# Altium footprint library cs-movement-custom-lib.PCBLIB: 21 footprints (part 1 of 2)
Each footprint in its own frame and in the unit in brackets; x right, y up, seen from the top. Pads: shape width x height; smd on the part's side, far side on the other; paste and mask are expansions set on the pad; w line width, h text height; cw(c..) or ccw(c..) is an arc to the next point about the centre after c.
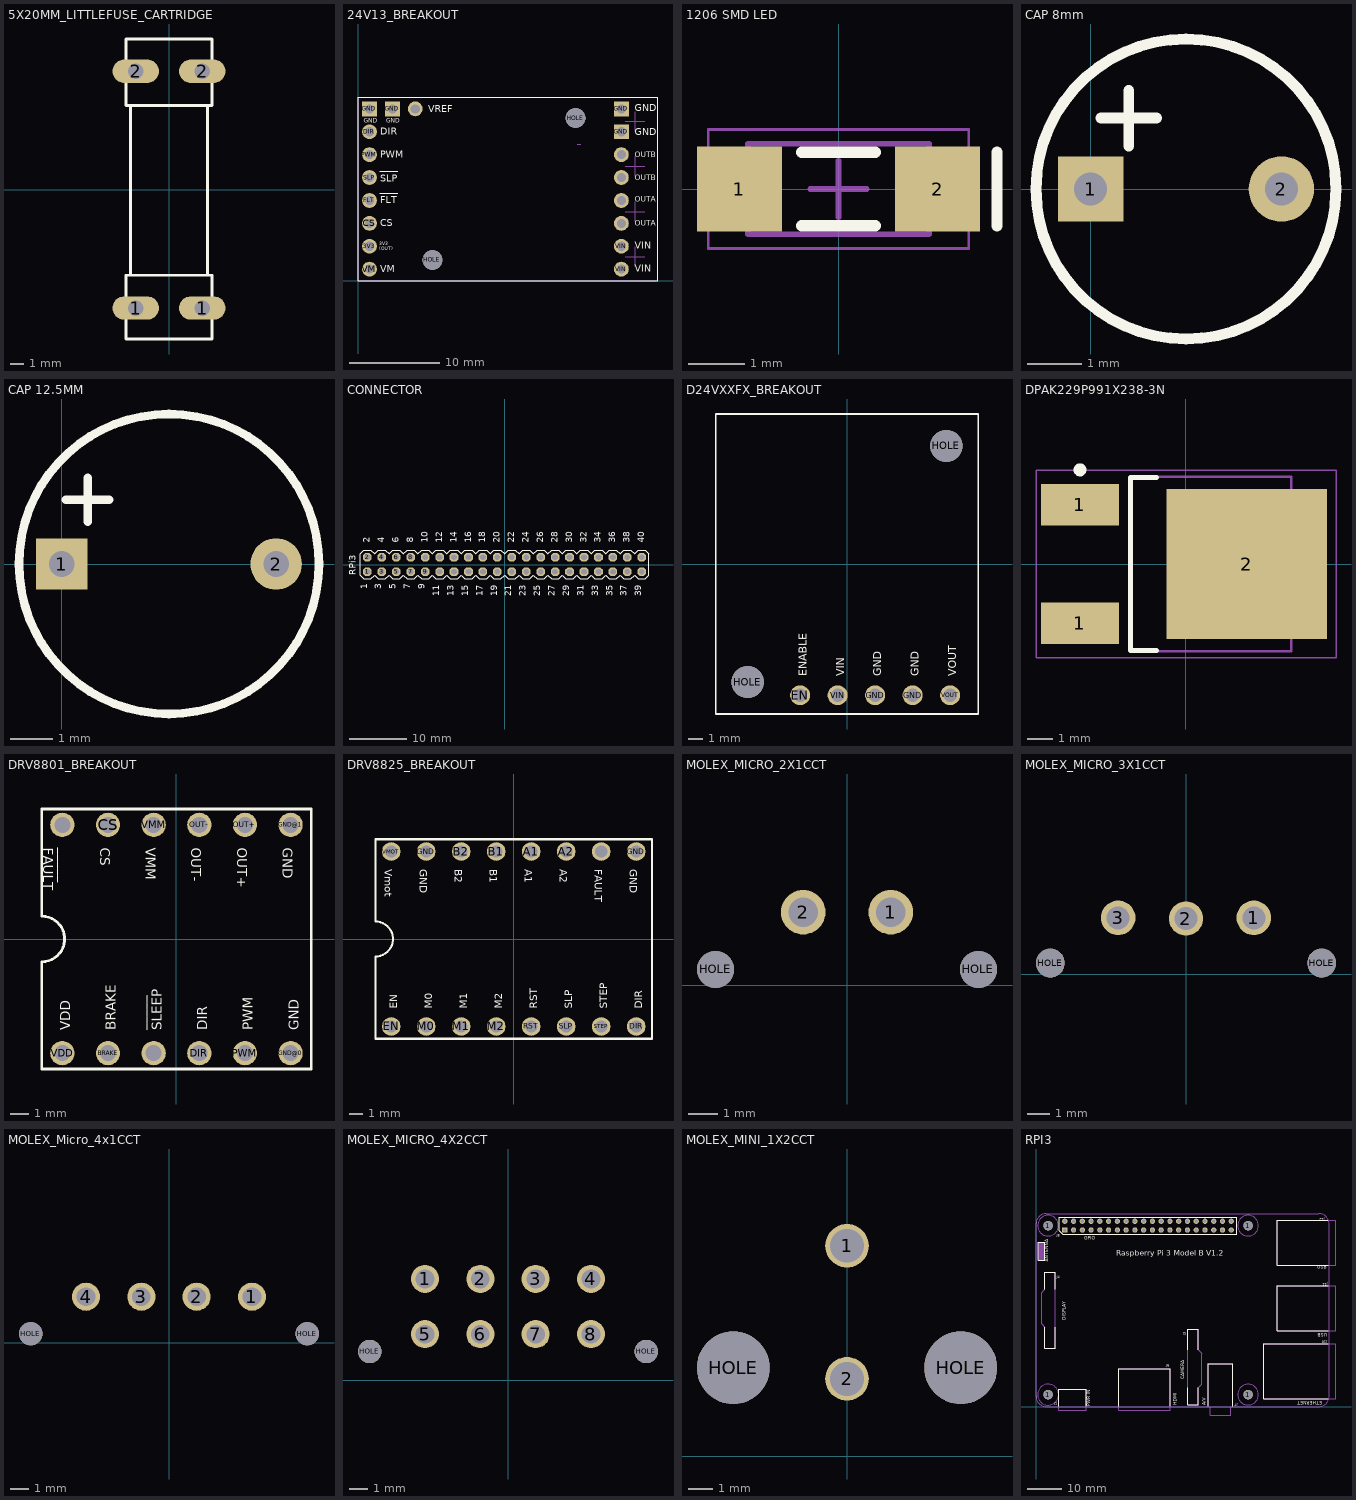
[diagram p0: the footprints below, top view; thin cyan lines are the x and y axes]

## 5X20MM_LITTLEFUSE_CARTRIDGE [mil]
pads (4):
  oval 138.18x69.09 hole 46.06: 1(-98.43,-350.39) 1(98.43,-350.39) 2(-98.43,350.39) 2(98.43,350.39)
Top Overlay:
  lines w8: -114.17,-251.97 -114.17,248.03 ; 114.17,-251.97 114.17,248.03 ; -127,-442.01 -127,-253.19 127,-253.19 127,-442.01 -127,-442.01 ; -127,249.25 -127,445.94 127,445.94 127,249.25 -127,249.25

## 24V13_BREAKOUT [mil]
pads (20):
  round 65 hole 40: 3V3(50,150) CS(50,250) DIR(50,650) FLT(50,350) OUTA(1150,250) OUTA(1150,350) OUTB(1150,450) OUTB(1150,550) PWM(50,550) SLP(50,450) VIN(1150,50) VIN(1150,150) VM(50,50) VREF(250,750)
  rect 65x65 hole 40: GND(50,750) GND(150,750) GND(1150,650) GND(1150,750)
  round 85.98 hole 85.98 unplated: HOLE(325,90) HOLE(950,710)
Top Overlay:
  lines w4.92: 94.37,381.97 174.37,381.97 ; 94.37,476.97 174.37,476.97 ; 0,0 0,800 1310,800 1310,0 0,0
  text "VIN" at 1207.84,38.94 h30
  text "VIN" at 1207.84,138.94 h30
  text "OUTA" at 1207.84,238.94 h23.62
  text "OUTA" at 1207.84,343.94 h23.62
  text "OUTB" at 1207.84,438.94 h23.62
  text "OUTB" at 1207.84,538.94 h23.62
  text "GND" at 1207.84,633.94 h30
  text "GND" at 1207.84,738.94 h30
  text "VM" at 97.91,36.97 h30
  text "3V3 / (OUT)" at 91.91,131.97 h15
  text "CS" at 97.91,236.97 h30
  text "FLT" at 97.91,336.97 h30
  text "SLP" at 97.91,431.97 h30
  text "VREF" at 307.48,734.25 h30
  text "GND" at 123.62,690.16 h19.68
  text "DIR" at 97.91,636.97 h30
  text "PWM" at 97.91,536.97 h30
  text "GND" at 24.8,690.16 h19.68
Mechanical 2:
  lines w0.1: 30,50 70,50 ; 30,150 70,150 ; 30,250 70,250 ; 30,350 70,350 ; 30,450 70,450 ; 30,550 70,550 ; 30,650 70,650 ; 30,750 70,750 ; 50,30 50,70 ; 50,130 50,170 ; 50,230 50,270 ; 50,330 50,370 ; 50,430 50,470 ; 50,530 50,570 ; 50,630 50,670 ; 50,730 50,770 ; 130,750 170,750 ; 150,730 150,770 ; 230,750 270,750 ; 250,730 250,770 ; 282,90 368,90 ; 325,47 325,133 ; 907,710 993,710 ; 950,667 950,753 ; 957.5,595 972.5,595 ; 1130,50 1170,50 ; 1130,150 1170,150 ; 1130,250 1170,250 ; 1130,350 1170,350 ; 1130,450 1170,450 ; 1130,550 1170,550 ; 1130,650 1170,650 ; 1130,750 1170,750 ; 1150,30 1150,70 ; 1150,130 1150,170 ; 1150,230 1150,270 ; 1150,330 1150,370 ; 1150,430 1150,470 ; 1150,530 1150,570 ; 1150,630 1150,670 ; 1150,730 1150,770 ; 1167,104.7 1253,104.7 ; 1167,301.6 1253,301.6 ; 1167,498.4 1253,498.4 ; 1167,695.3 1253,695.3 ; 1210,61.7 1210,147.7 ; 1210,258.6 1210,344.6 ; 1210,455.4 1210,541.4 ; 1210,652.3 1210,738.3 ; 1300,0 0,0 0,800 1300,800 ; 1310,0 1310,800

## 1206 SMD LED [mm] "Chip Diode, 2-Leads, Body 3.20x1.60mm, IPC Medium Density"
height 1.1
pads (2):
  rect 1.5x1.5 smd: 1(-1.75,0) 2(1.75,0)
Top Overlay:
  lines w0.2: -0.65,-0.65 0.65,-0.65 ; -0.65,0.65 0.65,0.65 ; 2.8,-0.65 2.8,0.65
Mechanical 13:
  lines w0.1: -1.6,-0.8 -1.6,0.8 1.6,0.8 1.6,-0.8 -1.6,-0.8
Mechanical 15:
  lines w0.05: -2.3,-1.05 -2.3,1.05 2.3,1.05 2.3,-1.05 -2.3,-1.05
  lines w0.1: -0.5,0 0.5,0 ; 0,-0.5 0,0.5
3D body "1206 SMD LED.step": height 1.1, standoff 0, extent -1.6,-0.8 1.6,0.8

## CAP 8mm [mm]
pads (2):
  rect 1.2x1.2 hole 0.6: 1(0,0)
  round 1.2 hole 0.6: 2(3.5,0)
Top Overlay:
  circle w0.2: c1.75,0 r2.75
  lines w0.2: 0.192,1.3 1.208,1.3 ; 0.7,0.792 0.7,1.808

## CAP 12.5MM [mm]
pads (2):
  rect 1.2x1.2 hole 0.6: 1(0,0)
  round 1.2 hole 0.6: 2(5,0)
Top Overlay:
  circle w0.2: c2.5,0 r3.5
  lines w0.2: 0.092,1.5 1.108,1.5 ; 0.6,0.992 0.6,2.008

## CONNECTOR [mil]
pads (40):
  oct 60x60 hole 40: 1(-950,-50) 2(-950,50) 3(-850,-50) 4(-850,50) 5(-750,-50) 6(-750,50) 7(-650,-50) 8(-650,50) 9(-550,-50) 10(-550,50) 11(-450,-50) 12(-450,50) 13(-350,-50) 14(-350,50) 15(-250,-50) 16(-250,50) 17(-150,-50) 18(-150,50) 19(-50,-50) 20(-50,50) 21(50,-50) 22(50,50) 23(150,-50) 24(150,50) 25(250,-50) 26(250,50) 27(350,-50) 28(350,50) 29(450,-50) 30(450,50) 31(550,-50) 32(550,50) 33(650,-50) 34(650,50) 35(750,-50) 36(750,50) 37(850,-50) 38(850,50) 39(950,-50) 40(950,50)
Top Overlay:
  lines w6: -1000,-75 -1000,75 -975,100 -925,100 -900,75 -875,100 -825,100 -800,75 -775,100 -725,100 -700,75 -675,100 -625,100 -600,75 -575,100 -525,100 -500,75 -475,100 -425,100 -400,75 -375,100 -325,100 -300,75 -275,100 -225,100 -200,75 -175,100 -125,100 -100,75 -75,100 -25,100 0,75 25,100 75,100 100,75 125,100 175,100 200,75 225,100 275,100 300,75 325,100 375,100 400,75 425,100 475,100 500,75 525,100 575,100 600,75 625,100 675,100 700,75 725,100 775,100 800,75 825,100 875,100 900,75 925,100 975,100 1000,75 1000,-75 975,-100 925,-100 900,-75 875,-100 825,-100 800,-75 775,-100 725,-100 700,-75 675,-100 625,-100 600,-75 575,-100 525,-100 500,-75 475,-100 425,-100 400,-75 375,-100 325,-100 300,-75 275,-100 225,-100 200,-75 175,-100 125,-100 100,-75 75,-100 25,-100 0,-75 -25,-100 -75,-100 -100,-75 -125,-100 -175,-100 -200,-75 -225,-100 -275,-100 -300,-75 -325,-100 -375,-100 -400,-75 -425,-100 -475,-100 -500,-75 -525,-100 -575,-100 -600,-75 -625,-100 -675,-100 -700,-75 -725,-100 -775,-100 -800,-75 -825,-100 -875,-100 -900,-75 -925,-100 -975,-100 -1000,-75
  text "1" at -935,-170 h77.5
  text "RPi3" at -1015,-75 h77.5
  text "40" at 985,150 h77.5
  text "38" at 885,150 h77.5
  text "36" at 785,150 h77.5
  text "34" at 685,150 h77.5
  text "32" at 585,150 h77.5
  text "30" at 485,150 h77.5
  text "28" at 385,150 h77.5
  text "26" at 285,150 h77.5
  text "24" at 185,150 h77.5
  text "22" at 85,150 h77.5
  text "20" at -15,150 h77.5
  text "18" at -115,150 h77.5
  text "16" at -215,150 h77.5
  text "14" at -315,150 h77.5
  text "12" at -415,150 h77.5
  text "10" at -515,150 h77.5
  text "8" at -615,150 h77.5
  text "6" at -715,150 h77.5
  text "4" at -815,150 h77.5
  text "2" at -915,150 h77.5
  text "3" at -835,-170 h77.5
  text "5" at -735,-170 h77.5
  text "7" at -635,-170 h77.5
  text "9" at -535,-170 h77.5
  text "11" at -435,-220 h77.5
  text "13" at -335,-220 h77.5
  text "15" at -235,-220 h77.5
  text "17" at -135,-220 h77.5
  text "19" at -35,-220 h77.5
  text "21" at 65,-220 h77.5
  text "23" at 165,-220 h77.5
  text "25" at 265,-220 h77.5
  text "27" at 365,-220 h77.5
  text "29" at 465,-220 h77.5
  text "31" at 565,-220 h77.5
  text "33" at 665,-220 h77.5
  text "35" at 765,-220 h77.5
  text "37" at 865,-220 h77.5
  text "39" at 965,-220 h77.5
Mechanical 16:
  rectangle: -860,-60 -840,-40
  region: -940,-60 -940,-40 -960,-40 -960,-60
  rectangle: -760,-60 -740,-40
  rectangle: -560,-60 -540,-40
  rectangle: -660,-60 -640,-40
  rectangle: -460,-60 -440,-40
  rectangle: -960,40 -940,60
  rectangle: -860,40 -840,60
  rectangle: -760,40 -740,60
  rectangle: -660,40 -640,60
  rectangle: -560,40 -540,60
  rectangle: -460,40 -440,60
  rectangle: -360,40 -340,60
  rectangle: -360,-60 -340,-40
  rectangle: -160,-60 -140,-40
  rectangle: -260,-60 -240,-40
  rectangle: -60,-60 -40,-40
  rectangle: 140,-60 160,-40
  rectangle: 40,-60 60,-40
  rectangle: 240,-60 260,-40
  rectangle: -260,40 -240,60
  rectangle: -160,40 -140,60
  region: -40,60 -60,60 -60,40 -40,40
  rectangle: 40,40 60,60
  rectangle: 140,40 160,60
  rectangle: 240,40 260,60
  rectangle: 340,40 360,60
  rectangle: 340,-60 360,-40
  rectangle: 540,-60 560,-40
  rectangle: 440,-60 460,-40
  rectangle: 640,-60 660,-40
  rectangle: 840,-60 860,-40
  rectangle: 740,-60 760,-40
  rectangle: 940,-60 960,-40
  rectangle: 440,40 460,60
  rectangle: 540,40 560,60
  rectangle: 640,40 660,60
  rectangle: 740,40 760,60
  rectangle: 840,40 860,60
  rectangle: 940,40 960,60

## D24VXXFX_BREAKOUT [mil]
pads (7):
  round 53.15 hole 35.43: EN(-125,-350) GND(75,-350) GND(175,-350) VIN(-25,-350) VOUT(275,-350)
  round 86 hole 86 unplated: HOLE(-265,-315) HOLE(265,315)
Top Overlay:
  lines w5: -350,-400 350,-400 350,400 -350,400 -350,-400
  text "ENABLE" at -100,-300 h37.2
  text "VIN" at 0,-300 h37.2
  text "GND" at 100,-300 h37.2
  text "VOUT" at 300,-300 h37.2
  text "GND" at 200,-300 h37.2

## DPAK229P991X238-3N [mm] "D-PAK, 3-Pads, Body 6.21x6.73mm (max), IPC Medium Density"
height 2.38
pads (3):
  rect 3x1.6 smd: 1(-4.1,-2.29) 1(-4.1,2.29)
  rect 6.2x5.8 smd: 2(2.35,0)
Top Overlay:
  circle w0.25: c-4.1,3.64 r0.125
  lines w0.2: -1.15,-3.35 -2.15,-3.35 -2.15,3.35 -1.15,3.35
Mechanical 13:
  lines w0.1: -2.15,-3.375 -2.15,3.375 4.07,3.375 4.07,-3.375 -2.15,-3.375
Mechanical 15:
  lines w0.05: -5.8,-3.625 -5.8,3.625 5.8,3.625 5.8,-3.625 -5.8,-3.625
  lines w0.1: -0.5,0 0.5,0 ; 0,-0.5 0,0.5
3D body "DPAK229P991X238-3N.step": height 2.51, standoff 0, extent -5.1,-3.375 4.805,3.375

## DRV8801_BREAKOUT [mil]
pads (12):
  round 53.15 hole 35.43: BRAKE(-150,-250) CS(-150,250) DIR(50,-250) FAULT*(-250,250) GND@0(250,-250) GND@1(250,250) OUT+(150,250) OUT-(50,250) PWM(150,-250) SLEEP*(-50,-250) VDD(-250,-250) VMM(-50,250)
Top Overlay:
  lines w6: -295,-285 295,-285 295,285 -295,285 -295,50 cw(c-295,0) -295,-50 -295,-285
  text "PWM" at 175,-200 h37.2
  text "GND" at 225,200 h37.2
  text "OUT+" at 125,200 h37.2
  text "OUT-" at 25,200 h37.2
  text "VMM" at -75,200 h37.2
  text "CS" at -175,200 h37.2
  text "FAULT" at -300,200 h37.2
  text "_____" at -262.8,200 h37.2
  text "GND" at 275,-200 h37.2
  text "DIR" at 75,-200 h37.2
  text "SLEEP" at -25,-200 h37.2
  text "_____" at -62.2,-200 h37.2
  text "BRAKE" at -125,-200 h37.2
  text "VDD" at -225,-200 h37.2

## DRV8825_BREAKOUT [mil]
pads (16):
  round 53.15 hole 35.43: A1(50,250) A2(150,250) B1(-50,250) B2(-150,250) DIR(350,-250) EN(-350,-250) FAULT(250,250) GND(-250,250) GND(350,250) M0(-250,-250) M1(-150,-250) M2(-50,-250) RST(50,-250) SLP(150,-250) STEP(250,-250) VMOT(-350,250)
Top Overlay:
  lines w6: -395,-285 -395,-50 ccw(c-395,0) -395,50 -395,285 395,285 395,-285 -395,-285
  text "EN" at -325,-200 h37.2
  text "M0" at -225,-200 h37.2
  text "M1" at -125,-200 h37.2
  text "M2" at -25,-200 h37.2
  text "RST" at 75,-200 h37.2
  text "STEP" at 275,-200 h37.2
  text "DIR" at 375,-200 h37.2
  text "Vmot" at -375,200 h37.2
  text "GND" at -275,200 h37.2
  text "B2" at -175,200 h37.2
  text "B1" at -75,200 h37.2
  text "A1" at 25,200 h37.2
  text "A2" at 125,200 h37.2
  text "FAULT" at 225,200 h37.2
  text "GND" at 325,200 h37.2
  text "SLP" at 175,-200 h37.2

## MOLEX_MICRO_2X1CCT [mm]
pads (4):
  round 1.524 hole 1.02: 1(1.5,2.5) 2(-1.5,2.5)
  round 1.27 hole 1.27 unplated: HOLE(-4.5,0.54) HOLE(4.5,0.54)
3D body "436500215.stp": height 9.95, standoff -3.13, extent -4.825,0 4.825,5.605

## MOLEX_MICRO_3X1CCT [mm]
pads (5):
  round 1.524 hole 1.02: 1(3,2.5) 2(0,2.47) 3(-3,2.5)
  round 1.27 hole 1.27 unplated: HOLE(-6,0.5) HOLE(6,0.5)
3D body "436500315.stp": height 9.95, standoff -3.13, extent -6.325,0 6.325,5.605

## MOLEX_Micro_4x1CCT [mm]
pads (6):
  round 1.524 hole 1.02: 1(4.5,2.5) 2(1.5,2.5) 3(-1.5,2.5) 4(-4.5,2.5)
  round 1.27 hole 1.27 unplated: HOLE(-7.5,0.5) HOLE(7.5,0.5)
3D body "436500415.stp": height 9.95, standoff -3.13, extent -7.825,0 7.825,5.605

## MOLEX_MICRO_4X2CCT [mm]
pads (10):
  round 1.524 hole 1.02: 1(-4.5,5.5) 2(-1.5,5.5) 3(1.5,5.5) 4(4.5,5.5) 5(-4.5,2.5) 6(-1.5,2.5) 7(1.5,2.5) 8(4.5,2.5)
  round 1.27 hole 1.27 unplated: HOLE(-7.5,1.56) HOLE(7.5,1.56)
3D body "430450812.stp": height 9.95, standoff -3.14, extent -8.075,-0.83 8.075,7.94

## MOLEX_MINI_1X2CCT [mm]
pads (4):
  round 1.8 hole 1.4: 1(0,8.7) 2(0,3.2)
  round 3 hole 3 unplated: HOLE(-4.7,3.66) HOLE(4.7,3.66)
3D body "039299023.stp": height 12.8, standoff -3.5, extent -6.089,0 6.089,11

## RPI3 [mil]
pads (44):
  round 108.27 hole 108.27: 1(137.8,137.8) 1(137.8,2066.93) 1(2421.26,137.8) 1(2421.26,2066.93)
  rect 60x60 hole 40: P$1(329.53,2016.93)
  round 60 hole 40: P$2(329,2117) P$3(429,2017) P$4(429,2117) P$5(529,2017) P$6(529,2117) P$7(629,2017) P$8(629,2117) P$9(729,2017) P$10(729,2117) P$11(829,2017) P$12(829,2117) P$13(929,2017) P$14(929,2117) P$15(1029,2017) P$16(1029,2117) P$17(1129,2017) P$18(1129,2117) P$19(1229,2017) P$20(1229,2117) P$21(1329,2017) P$22(1329,2117) P$23(1429,2017) P$24(1429,2117) P$25(1529,2017) P$26(1529,2117) P$27(1629,2017) P$28(1629,2117) P$29(1729,2017) P$30(1729,2117) P$31(1829,2017) P$32(1829,2117) P$33(1929,2017) P$34(1929,2117) P$35(2029,2017) P$36(2029,2117) P$37(2129,2017) P$38(2129,2117) P$39(2229,2017) P$40(2229,2117)
Top Overlay:
  lines w5: 102.36,905.51 102.36,669.29 220.47,669.29 220.47,905.51 ; 102.36,1338.58 102.36,1535.43 220.47,1535.43 220.47,1338.58 ; 259.84,3.94 259.84,196.85 574.8,196.85 574.8,3.94 ; 944.88,3.94 944.88,433.07 1535.43,433.07 1535.43,3.94 ; 1732.28,216.54 1732.28,19.69 1850.39,19.69 1850.39,216.54 ; 1732.28,649.61 1732.28,885.83 1850.39,885.83 1850.39,649.61 ; 1968.5,3.94 1968.5,492.13 2244.09,492.13 2244.09,3.94 ; 3330.71,2125.98 2755.91,2125.98 2755.91,1614.17 3338.58,1614.17 ; 3334.65,90.55 2598.43,90.55 2598.43,720.47 3338.58,720.47 ; 3338.58,866.14 2755.91,866.14 2755.91,1377.95 3338.58,1377.95 ; 23.62,1673.23 102.36,1673.23 102.36,1879.92 23.62,1879.92 23.62,1673.23 ; 265.32,2007.94 265.32,2165.43 2292.87,2165.43 2292.87,1968.57 304.69,1968.57 265.32,2007.94
  text "J8" at 236.22,1929.13 h49.6
  text "J1" at 208.66,7.87 h49.6
  text "J6" at 1488.19,444.88 h49.6
  text "J3" at 1720.47,814.96 h49.6
  text "J7" at 2303.15,47.24 h49.6
  text "J10" at 3326.77,763.78 h49.6
  text "J11" at 3330.71,1421.26 h49.6
  text "J12" at 3299.21,2165.35 h49.6
  text "GPIO" at 551.18,1889.76 h62
  text "DISPLAY" at 354.33,984.25 h62
  text "PWR IN" at 637.8,3.94 h62
  text "HDMI" at 1625.98,15.75 h62
  text "CAMERA" at 1708.66,311.02 h62
  text "A/V" at 1952.76,15.75 h62
  text "ETHERNET" at 3267.72,78.74 h62
  text "USB" at 3326.77,854.33 h62
  text "USB" at 3212.6,1559.06 h62
  text "J4" at 236.22,1456.69 h49.6
  text "Raspberry Pi 3 Model B V1.2" at 913.78,1700 h108.5
  text "ANTENNA" at 157.48,1653.54 h62
Mechanical 16:
  circle w5: c137.8,137.8 r120
  circle w5: c2421.26,137.8 r118.11
  circle w5: c2421.26,2066.93 r118.11
  circle w5: c137.8,2066.93 r118.11
  rectangle: 23.62,1673.23 102.36,1879.92
  lines w5: 0,118.11 ccw(c118.11,118.11) 118.11,0 3228.35,0 ccw(c3228.35,118.11) 3346.46,118.11 3346.46,2086.61 ccw(c3228.35,2086.61) 3228.35,2204.72 118.11,2204.72 ccw(c118.11,2086.61) 0,2086.61 0,118.11 ; 62.99,944.88 102.36,905.51 102.36,669.29 220.47,669.29 220.47,1535.43 102.36,1535.43 102.36,1338.58 62.99,1299.21 62.99,944.88 ; 259.84,-39.37 259.84,196.85 574.8,196.85 574.8,-39.37 259.84,-39.37 ; 944.88,-39.37 944.88,433.07 1535.43,433.07 1535.43,-39.37 944.88,-39.37 ; 1732.28,19.69 1732.28,885.83 1850.39,885.83 1850.39,649.61 1889.76,610.24 1889.76,255.91 1850.39,216.54 1850.39,19.69 1732.28,19.69 ; 1968.5,0 1968.5,492.13 2244.09,492.13 2244.09,0 2224.41,0 2224.41,-98.43 1988.19,-98.43 1988.19,0 1968.5,0 ; 2598.43,90.55 2598.43,720.47 3425.2,720.47 3425.2,90.55 2598.43,90.55 ; 2755.91,866.14 3425.2,866.14 3425.2,1377.95 2755.91,1377.95 2755.91,866.14 ; 2755.91,1614.17 3425.2,1614.17 3425.2,2125.98 2755.91,2125.98 2755.91,1614.17